# EAGLE library part ICL710*CQH+ (library IC_Data-Conversion)
3 1⁄2 Digit A/D Converters Datasheet <https://datasheets.maximintegrated.com/en/ds/ICL7106-ICL7107.pdf> IPC Calculated landpattern is used for footprint creation. Refer to datasheet for manufacturer recommended landpattern.
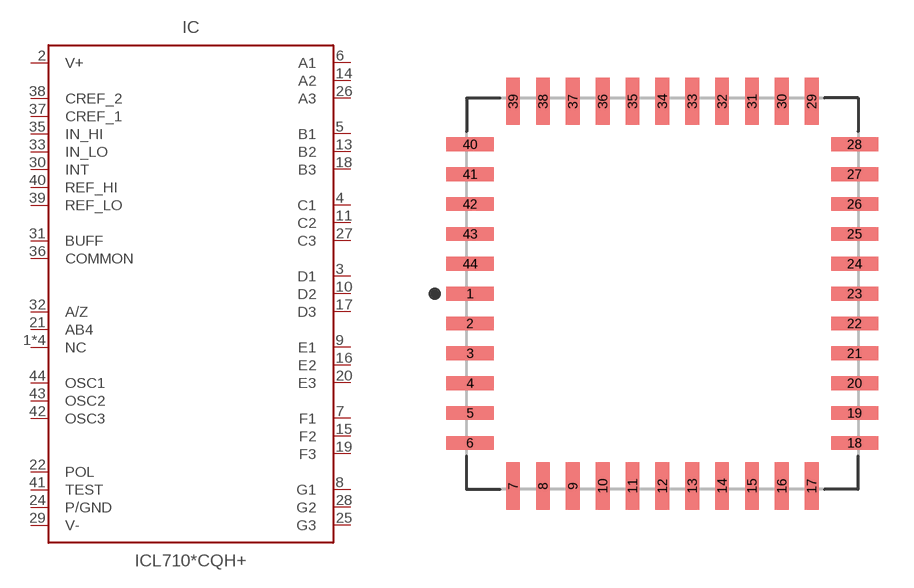
[diagram p1: symbol with the pads of PLCC127P1752X1752X457-44; footprint PLCC127P1752X1752X457-44]

Designator prefix IC

## ICL7106CQH+ (CATEGORY: IC_Data-Conversion; DESCRIPTION: 31⁄2 Digit A/D Converters; MANUFACTURER: Maxim Integrated; MPN: ICL7106CQH+; OPERATING_TEMP: 0°C to +70°C; PART_STATUS: Active; ROHS_COMPLIANT: COMPLIANT; SERIES: ICL7106; SUB-CATEGORY: ADC; VALUE: ICL7106), ICL7107CQH+ (CATEGORY: IC_Data-Conversion; DESCRIPTION: 31⁄2 Digit A/D Converters; MANUFACTURER: Maxim Integrated; MPN: ICL7107CQH+; OPERATING_TEMP: 0°C to +70°C; PART_STATUS: Active; ROHS_COMPLIANT: COMPLIANT; SERIES: ICL7107; SUB-CATEGORY: ADC; VALUE: ICL7106)  [PLCC127P1752X1752X457-44]
1  NC  nc
2  V+  pwr
3  D1
4  C1
5  B1
6  A1
7  F1
8  G1
9  E1
10  D2
11  C2
12  NC  nc
13  B2
14  A2
15  F2
16  E2
17  D3
18  B3
19  F3
20  E3
21  AB4
22  POL
23  NC  nc
24  P/GND  pwr
25  G3
26  A3
27  C3
28  G2
29  V-  pwr
30  INT  in
31  BUFF
32  A/Z
33  IN_LO  in
34  NC  nc
35  IN_HI  in
36  COMMON
37  CREF_1  in
38  CREF_2  in
39  REF_LO  in
40  REF_HI  in
41  TEST
42  OSC3
43  OSC2
44  OSC1

## Footprint PLCC127P1752X1752X457-44 (pad centres in mm)
44-PLCC, 1.27 mm pitch, 17.52 mm span, 16.59 X 16.59 X 4.57 mm body 44-pin PLCC package with 1.27 mm pitch, 17.52 mm lead span1 X 17.52 mm lead span2 with body size 16.59 X 16.59 X 4.57 mm
smd 2.007 x 0.584: 1 -8.179,0; 2 -8.179,-1.27; 3 -8.179,-2.54; 4 -8.179,-3.81; 5 -8.179,-5.08; 6 -8.179,-6.35; 18 8.179,-6.35; 19 8.179,-5.08; 20 8.179,-3.81; 21 8.179,-2.54; 22 8.179,-1.27; 23 8.179,0; 24 8.179,1.27; 25 8.179,2.54; 26 8.179,3.81; 27 8.179,5.08; 28 8.179,6.35; 40 -8.179,6.35; 41 -8.179,5.08; 42 -8.179,3.81; 43 -8.179,2.54; 44 -8.179,1.27
smd 0.584 x 2.007: 7 -6.35,-8.179; 8 -5.08,-8.179; 9 -3.81,-8.179; 10 -2.54,-8.179; 11 -1.27,-8.179; 12 0,-8.179; 13 1.27,-8.179; 14 2.54,-8.179; 15 3.81,-8.179; 16 5.08,-8.179; 17 6.35,-8.179; 29 6.35,8.179; 30 5.08,8.179; 31 3.81,8.179; 32 2.54,8.179; 33 1.27,8.179; 34 0,8.179; 35 -1.27,8.179; 36 -2.54,8.179; 37 -3.81,8.179; 38 -5.08,8.179; 39 -6.35,8.179